# Altium footprint library Diodes.PcbLib: 17 footprints (part 2 of 2)
Each footprint in its own frame and in the unit in brackets; x right, y up, seen from the top. Pads: shape width x height; smd on the part's side, far side on the other; paste and mask are expansions set on the pad; w line width, h text height; cw(c..) or ccw(c..) is an arc to the next point about the centre after c.
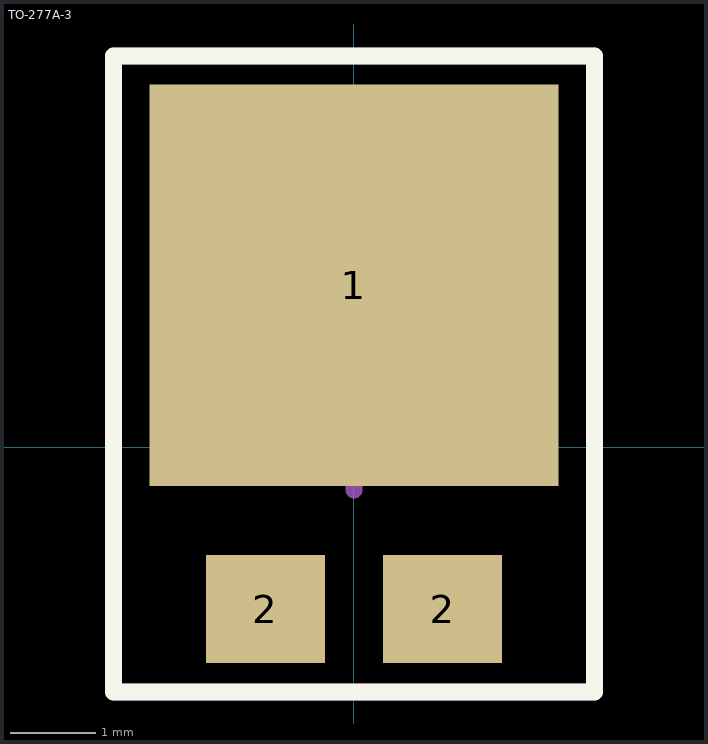
[diagram p1: the footprint, top view; thin cyan lines are the x and y axes]

## TO-277A-3 [mm]
pads (3):
  rect 4.8x4.72 smd: 1(0,1.903)
  rect 1.4x1.27 smd: 2(-1.04,-1.902) 2(1.04,-1.902)
Top Overlay:
  lines w0.2: -2.825,-2.877 2.825,-2.877 2.825,4.598 -2.825,4.598 -2.825,-2.877
  text "." at -2.547,-3.399 h0.8
Top Assembly:
  lines w0.2: -2.825,-2.877 2.825,-2.877 2.825,4.598 -2.825,4.598 -2.825,-2.877
  text "'.Designator'" at -3.972,5.917 h0.8
  text "CHECK" at -1.555,7.098 h0.8
Top Courtyard:
  lines w0.2: -0.5,0 0.5,0 ; 0,-0.5 0,0.5 ; -2.825,-2.877 2.825,-2.877 2.825,4.598 -2.825,4.598 -2.825,-2.877
3D body "User Library-DFN5x6_SO8FL.STEP": height 1.13, standoff 0, extent -2.575,-2.202 2.575,3.948